# Altium footprint library 3.05-触控弹簧.PcbLib: 1 footprints
Each footprint in its own frame and in the unit in brackets; x right, y up, seen from the top. Pads: shape width x height; smd on the part's side, far side on the other; paste and mask are expansions set on the pad; w line width, h text height; cw(c..) or ccw(c..) is an arc to the next point about the centre after c.
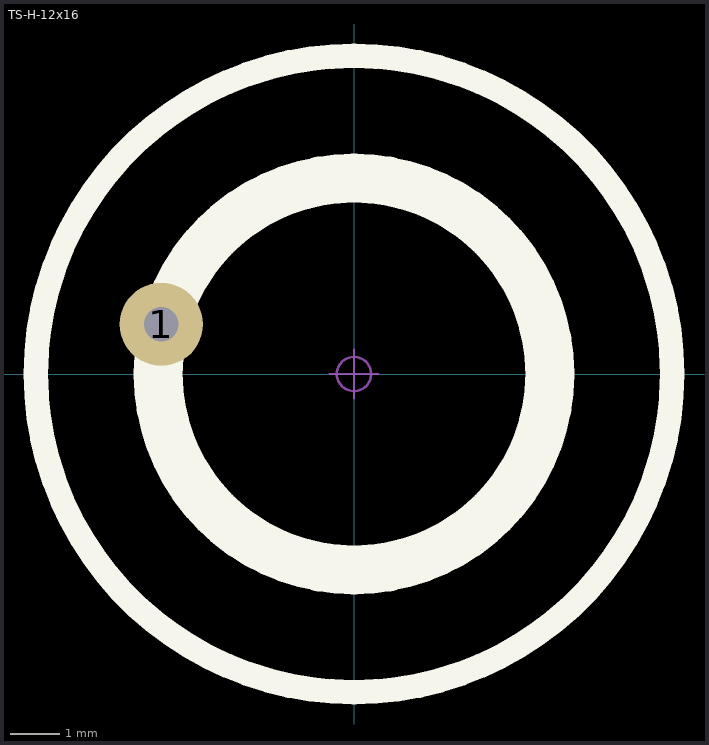
[diagram p0: the footprint, top view; thin cyan lines are the x and y axes]

## TS-H-12x16 [mm] "顶部直径：12mm，高：16mm              淘宝ID:黄晶宝石"
pads (1):
  round 1.7 hole 0.7: 1(-3.937,1.016)
Top Overlay:
  circle w1: c0,0 r4
  circle w0.5: c0,0 r6.5
Mechanical 15:
  circle w0.05: c0,0 r0.35
  lines w0.05: -0.5,0 0.5,0 ; 0,-0.5 0,0.5
3D body "TS-H-10x16.STEP": height 16, standoff -2.5, extent -6.25,-5.868 5.999,6.125